# Altium schematic symbol library SCH - CRYSTALS - KSD DSO221SHF-AA.Schlib: 1 symbol
Pins are listed as number, name and electrical type; pins without a type are passive.

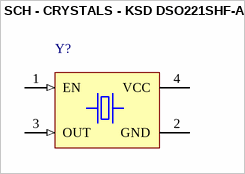
[diagram p0: symbol SCH - CRYSTALS - KSD DSO221SHF-AA]

## SCH - CRYSTALS - KSD DSO221SHF-AA
designator Y?
footprint DSO221SHF
pins: 1 EN (in), 2 GND (power), 3 OUT (in), 4 VCC (power)